# EAGLE library part CRD89C51RD-QFP44 (library micro-cyrod)
CRD89C51RD series 8 - bit single chip micro controller unit (MCU) with 64KB flash & 1K byte RAM embedded. Auto generated by make-symbol-device-package-bsdl.ulp Rev. 35 Source: CRD89C51RD_v001.pdf
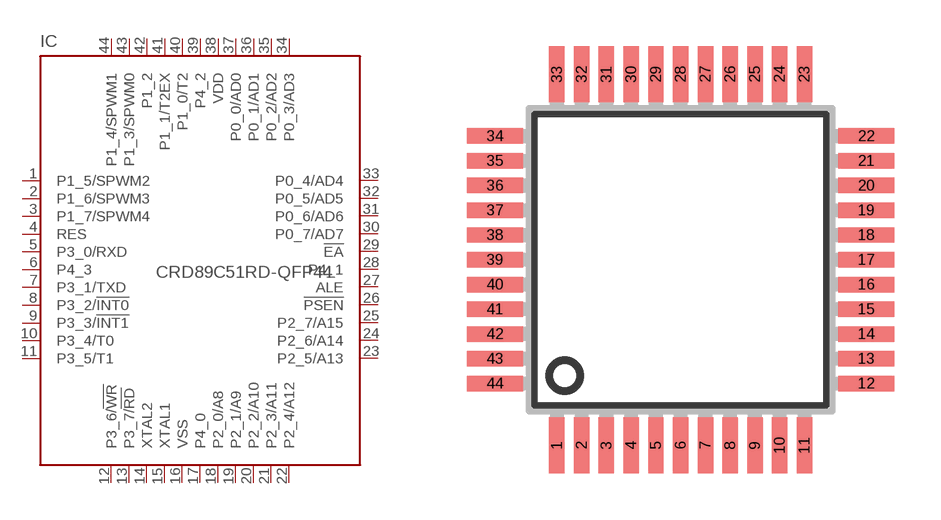
[diagram p0: symbol with the pads of SQFP-S-10X10-44; footprint SQFP-S-10X10-44]

Designator prefix IC

## CRD89C51RD-QFP44 (OC_FARNELL: unknown; OC_NEWARK: unknown)  [SQFP-S-10X10-44]
1  P1_5/SPWM2
2  P1_6/SPWM3
3  P1_7/SPWM4
4  RES  in
5  P3_0/RXD
6  P4_3
7  P3_1/TXD
8  P3_2/!INT0
9  P3_3/!INT1
10  P3_4/T0
11  P3_5/T1
12  P3_6/!WR
13  P3_7/!RD
14  XTAL2  out
15  XTAL1  in
16  VSS  pwr
17  P4_0
18  P2_0/A8
19  P2_1/A9
20  P2_2/A10
21  P2_3/A11
22  P2_4/A12
23  P2_5/A13
24  P2_6/A14
25  P2_7/A15
26  !PSEN  out
27  ALE  out
28  P4_1
29  !EA  in
30  P0_7/AD7
31  P0_6/AD6
32  P0_5/AD5
33  P0_4/AD4
34  P0_3/AD3
35  P0_2/AD2
36  P0_1/AD1
37  P0_0/AD0
38  VDD  pwr
39  P4_2
40  P1_0/T2
41  P1_1/T2EX
42  P1_2
43  P1_3/SPWM0
44  P1_4/SPWM1

## Footprint SQFP-S-10X10-44 (pad centres in mm)
QFP44 shrink quad flat pack, square
smd 0.5 x 1.8: 1 -4,-6; 2 -3.2,-6; 3 -2.4,-6; 4 -1.6,-6; 5 -0.8,-6; 6 0,-6; 7 0.8,-6; 8 1.6,-6; 9 2.4,-6; 10 3.2,-6; 11 4,-6; 23 4,6; 24 3.2,6; 25 2.4,6; 26 1.6,6; 27 0.8,6; 28 0,6; 29 -0.8,6; 30 -1.6,6; 31 -2.4,6; 32 -3.2,6; 33 -4,6
smd 1.8 x 0.5: 12 6,-4; 13 6,-3.2; 14 6,-2.4; 15 6,-1.6; 16 6,-0.8; 17 6,0; 18 6,0.8; 19 6,1.6; 20 6,2.4; 21 6,3.2; 22 6,4; 34 -6,4; 35 -6,3.2; 36 -6,2.4; 37 -6,1.6; 38 -6,0.8; 39 -6,0; 40 -6,-0.8; 41 -6,-1.6; 42 -6,-2.4; 43 -6,-3.2; 44 -6,-4